# Altium schematic symbol library USB Li-ion batterilader.SchLib: 1 symbol
Pins are listed as number, name and electrical type; pins without a type are passive.

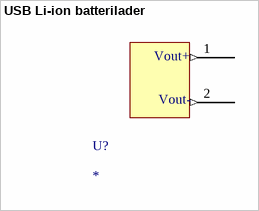
[diagram p0: symbol USB Li-ion batterilader]

## USB Li-ion batterilader
designator U?
footprint USB Li-ion batterilader
pins: 1 (out), 2 (out)
text: Vout+; Vout-